# EAGLE library part AD7142* (library DAC)
Programmable Capacitance-to-Digital Converter with Environmental Compensation Source: http://www.analog.com/UploadedFiles/Data_Sheets/762180021AD7142_42_1_prd.pdf
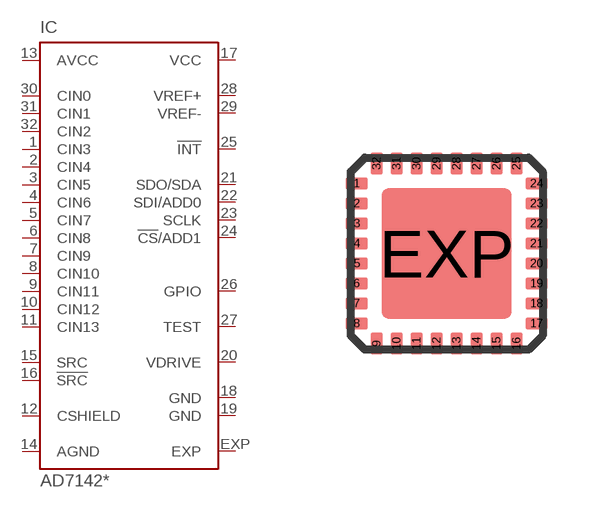
[diagram p43: symbol with the pads of LFCSP32; footprint LFCSP32]

Designator prefix IC

## AD7142-1ACPZ (MPN: AD7142ACPZ; OC_FARNELL: 1498724; OC_NEWARK: 15P0769), AD7142ACPZ (MPN: AD7142ACPZ; OC_FARNELL: 1498724; OC_NEWARK: 15P0769)  [LFCSP32]
1  CIN3  in
2  CIN4  in
3  CIN5  in
4  CIN6  in
5  CIN7  in
6  CIN8  in
7  CIN9  in
8  CIN10  in
9  CIN11  in
10  CIN12  in
11  CIN13  in
12  CSHIELD  out
13  AVCC  in
14  AGND  in
15  SRC  in
16  !SRC  in
17  VCC  pwr
18  GND  pwr
19  GND  pwr
20  VDRIVE  in
21  SDO/SDA  out
22  SDI/ADD0
23  SCLK  in
24  !CS!/ADD1  in
25  !INT  out
26  GPIO  in
27  TEST  in
28  VREF+  in
29  VREF-  in
30  CIN0  in
31  CIN1  in
32  CIN2  in
EXP  EXP  pas

## Footprint LFCSP32 (pad centres in mm)
32-Lead Frame Chip Scale Package [LFCSP_VQ] 5 mm × 5 mm Very Thin Quad (CP-32-3 COMPLIANT TO JEDEC STANDARDS MO-220-VHHD-2 Source: http://www.analog.com/UploadedFiles/Data_Sheets/762180021AD7142_42_1_prd.pdf
smd 0.55 x 0.3: 1 -2.25,1.75; 2 -2.25,1.25; 3 -2.25,0.75; 4 -2.25,0.25; 5 -2.25,-0.25; 6 -2.25,-0.75; 7 -2.25,-1.25; 8 -2.25,-1.75; 17 2.25,-1.75; 18 2.25,-1.25; 19 2.25,-0.75; 20 2.25,-0.25; 21 2.25,0.25; 22 2.25,0.75; 23 2.25,1.25; 24 2.25,1.75
smd 0.3 x 0.55: 9 -1.75,-2.25; 10 -1.25,-2.25; 11 -0.75,-2.25; 12 -0.25,-2.25; 13 0.25,-2.25; 14 0.75,-2.25; 15 1.25,-2.25; 16 1.75,-2.25; 25 1.75,2.25; 26 1.25,2.25; 27 0.75,2.25; 28 0.25,2.25; 29 -0.25,2.25; 30 -0.75,2.25; 31 -1.25,2.25; 32 -1.75,2.25
smd 3.25 x 3.25: EXP 0,0